# Altium schematic symbol library APTD2012LSURCK.SchLib: 1 symbol
Pins are listed as number, name and electrical type; pins without a type are passive.

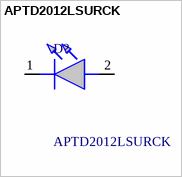
[diagram p0: symbol APTD2012LSURCK]

## APTD2012LSURCK
designator D?
Standard LEDs - SMD 0805 Dome Lens LED Red- 630nm; Manufacturer_Name: Kingbright; Geometry.Height: 1.2mm; Manufacturer_Part_Number: APTD2012LSURCK; Mouser Part Number: 604-APTD2012LSURCK; Mouser Price/Stock: https://www.mouser.co.uk/ProductDetail/Kingbright/APTD2012LSURCK?qs=AQlKX63v8RvkMadNvwbkxw%3D%3D; Arrow Part Number: APTD2012LSURCK; Arrow Price/Stock: https://www.arrow.com/en/products/aptd2012lsurck/kingbright?region=nac; Datasheet Link: http://www.kingbrightusa.com/images/catalog/SPEC/APTD2012LSURCK.pdf
footprint LEDM2012X120N
pins: 1 K, 2 A